# Altium footprint library Connector_JST.PcbLib: 558 footprints (part 16 of 35)
Each footprint in its own frame and in the unit in brackets; x right, y up, seen from the top. Pads: shape width x height; smd on the part's side, far side on the other; paste and mask are expansions set on the pad; w line width, h text height; cw(c..) or ccw(c..) is an arc to the next point about the centre after c.
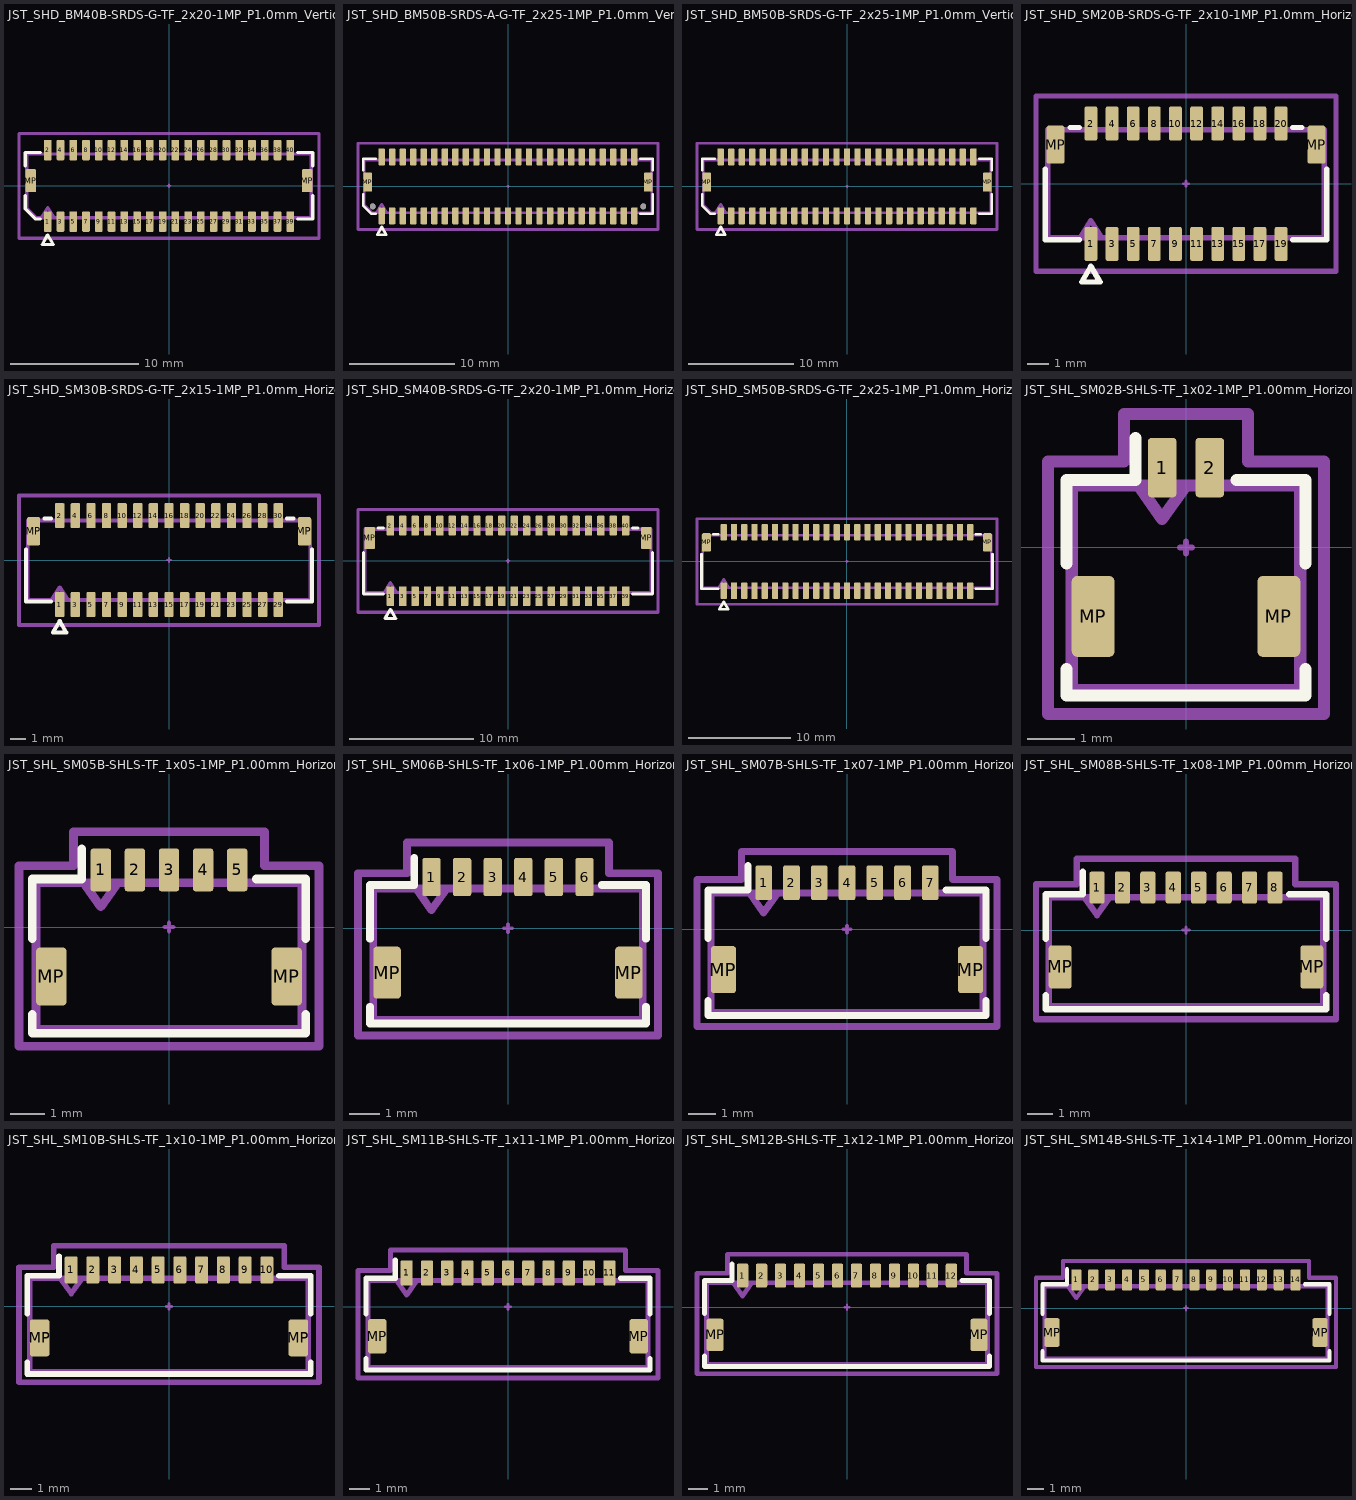
[diagram p15: the footprints below, top view; thin cyan lines are the x and y axes]

## JST_SHD_BM40B-SRDS-G-TF_2x20-1MP_P1.0mm_Vertical [mm] "JST_SHD_BM40B-SRDS-G-TF_2x20-1MP_P1.0mm_Vertical"
pads (42):
  rrect25% 0.6x1.6 smd: 1(-9.5,-2.8) 2(-9.5,2.8) 3(-8.5,-2.8) 4(-8.5,2.8) 5(-7.5,-2.8) 6(-7.5,2.8) 7(-6.5,-2.8) 8(-6.5,2.8) 9(-5.5,-2.8) 10(-5.5,2.8) 11(-4.5,-2.8) 12(-4.5,2.8) 13(-3.5,-2.8) 14(-3.5,2.8) 15(-2.5,-2.8) 16(-2.5,2.8) 17(-1.5,-2.8) 18(-1.5,2.8) 19(-0.5,-2.8) 20(-0.5,2.8) 21(0.5,-2.8) 22(0.5,2.8) 23(1.5,-2.8) 24(1.5,2.8) 25(2.5,-2.8) 26(2.5,2.8) 27(3.5,-2.8) 28(3.5,2.8) 29(4.5,-2.8) 30(4.5,2.8) 31(5.5,-2.8) 32(5.5,2.8) 33(6.5,-2.8) 34(6.5,2.8) 35(7.5,-2.8) 36(7.5,2.8) 37(8.5,-2.8) 38(8.5,2.8) 39(9.5,-2.8) 40(9.5,2.8)
  rrect25% 0.85x1.8 smd: MP(-10.825,0.4) MP(10.825,0.4)
F.SilkS:
  lines w0.254: -11.26,-0.76 -11.26,-1.796 -10.446,-2.61 -10.06,-2.61 ; -11.26,1.56 -11.26,2.61 -10.06,2.61 ; -9.506,-3.86 -9.933,-4.6 -9.067,-4.6 -9.494,-3.86 ; 10.06,-2.61 11.26,-2.61 11.26,-0.76 ; 10.06,2.61 11.26,2.61 11.26,1.56
Top Component Center:
  lines w0.127: -0.127,0 0.127,0 ; 0,-0.127 0,0.127
Top Assembly:
  lines w0.254: -10,-2.5 -9.5,-1.7 -9,-2.5 ; -11.15,-1.75 -10.4,-2.5 11.15,-2.5 11.15,2.5 -11.15,2.5 -11.15,-1.75
Top Courtyard:
  lines w0.254: -11.75,-4.1 11.75,-4.1 11.75,4.1 -11.75,4.1 -11.75,-4.1
Top Designator:
  text ".Designator" at -3.43,-0.344 h1.52

## JST_SHD_BM50B-SRDS-A-G-TF_2x25-1MP_P1.0mm_Vertical [mm] "JST_SHD_BM50B-SRDS-A-G-TF_2x25-1MP_P1.0mm_Vertical"
pads (54):
  rrect25% 0.6x1.6 smd: 1(-12,-2.8) 2(-12,2.8) 3(-11,-2.8) 4(-11,2.8) 5(-10,-2.8) 6(-10,2.8) 7(-9,-2.8) 8(-9,2.8) 9(-8,-2.8) 10(-8,2.8) 11(-7,-2.8) 12(-7,2.8) 13(-6,-2.8) 14(-6,2.8) 15(-5,-2.8) 16(-5,2.8) 17(-4,-2.8) 18(-4,2.8) 19(-3,-2.8) 20(-3,2.8) 21(-2,-2.8) 22(-2,2.8) 23(-1,-2.8) 24(-1,2.8) 25(0,-2.8) 26(0,2.8) 27(1,-2.8) 28(1,2.8) 29(2,-2.8) 30(2,2.8) 31(3,-2.8) 32(3,2.8) 33(4,-2.8) 34(4,2.8) 35(5,-2.8) 36(5,2.8) 37(6,-2.8) 38(6,2.8) 39(7,-2.8) 40(7,2.8) 41(8,-2.8) 42(8,2.8) 43(9,-2.8) 44(9,2.8) 45(10,-2.8) 46(10,2.8) 47(11,-2.8) 48(11,2.8) 49(12,-2.8) 50(12,2.8)
  rrect25% 0.85x1.8 smd: MP(-13.325,0.4) MP(13.325,0.4)
  round 0.55 hole 0.55: Un1(-12.85,-1.9) Un2(12.85,-1.9)
F.SilkS:
  lines w0.254: -13.76,-0.76 -13.76,-1.796 -12.946,-2.61 -12.56,-2.61 ; -13.76,1.56 -13.76,2.61 -12.56,2.61 ; -12.006,-3.86 -12.433,-4.6 -11.567,-4.6 -11.994,-3.86 ; 12.56,-2.61 13.76,-2.61 13.76,-0.76 ; 12.56,2.61 13.76,2.61 13.76,1.56
Top Component Center:
  lines w0.127: -0.127,0 0.127,0 ; 0,-0.127 0,0.127
Top Assembly:
  lines w0.254: -12.5,-2.5 -12,-1.7 -11.5,-2.5 ; -13.65,-1.75 -12.9,-2.5 13.65,-2.5 13.65,2.5 -13.65,2.5 -13.65,-1.75
Top Courtyard:
  lines w0.254: -14.25,-4.1 14.25,-4.1 14.25,4.1 -14.25,4.1 -14.25,-4.1
Top Designator:
  text ".Designator" at -3.43,-0.344 h1.52

## JST_SHD_BM50B-SRDS-G-TF_2x25-1MP_P1.0mm_Vertical [mm] "JST_SHD_BM50B-SRDS-G-TF_2x25-1MP_P1.0mm_Vertical"
pads (52):
  rrect25% 0.6x1.6 smd: 1(-12,-2.8) 2(-12,2.8) 3(-11,-2.8) 4(-11,2.8) 5(-10,-2.8) 6(-10,2.8) 7(-9,-2.8) 8(-9,2.8) 9(-8,-2.8) 10(-8,2.8) 11(-7,-2.8) 12(-7,2.8) 13(-6,-2.8) 14(-6,2.8) 15(-5,-2.8) 16(-5,2.8) 17(-4,-2.8) 18(-4,2.8) 19(-3,-2.8) 20(-3,2.8) 21(-2,-2.8) 22(-2,2.8) 23(-1,-2.8) 24(-1,2.8) 25(0,-2.8) 26(0,2.8) 27(1,-2.8) 28(1,2.8) 29(2,-2.8) 30(2,2.8) 31(3,-2.8) 32(3,2.8) 33(4,-2.8) 34(4,2.8) 35(5,-2.8) 36(5,2.8) 37(6,-2.8) 38(6,2.8) 39(7,-2.8) 40(7,2.8) 41(8,-2.8) 42(8,2.8) 43(9,-2.8) 44(9,2.8) 45(10,-2.8) 46(10,2.8) 47(11,-2.8) 48(11,2.8) 49(12,-2.8) 50(12,2.8)
  rrect25% 0.85x1.8 smd: MP(-13.325,0.4) MP(13.325,0.4)
F.SilkS:
  lines w0.254: -13.76,-0.76 -13.76,-1.796 -12.946,-2.61 -12.56,-2.61 ; -13.76,1.56 -13.76,2.61 -12.56,2.61 ; -12.006,-3.86 -12.433,-4.6 -11.567,-4.6 -11.994,-3.86 ; 12.56,-2.61 13.76,-2.61 13.76,-0.76 ; 12.56,2.61 13.76,2.61 13.76,1.56
Top Component Center:
  lines w0.127: -0.127,0 0.127,0 ; 0,-0.127 0,0.127
Top Assembly:
  lines w0.254: -12.5,-2.5 -12,-1.7 -11.5,-2.5 ; -13.65,-1.75 -12.9,-2.5 13.65,-2.5 13.65,2.5 -13.65,2.5 -13.65,-1.75
Top Courtyard:
  lines w0.254: -14.25,-4.1 14.25,-4.1 14.25,4.1 -14.25,4.1 -14.25,-4.1
Top Designator:
  text ".Designator" at -3.43,-0.344 h1.52

## JST_SHD_SM20B-SRDS-G-TF_2x10-1MP_P1.0mm_Horizontal [mm] "JST_SHD_SM20B-SRDS-G-TF_2x10-1MP_P1.0mm_Horizontal"
pads (22):
  rrect25% 0.6x1.6 smd: 1(-4.5,-2.85) 2(-4.5,2.85) 3(-3.5,-2.85) 4(-3.5,2.85) 5(-2.5,-2.85) 6(-2.5,2.85) 7(-1.5,-2.85) 8(-1.5,2.85) 9(-0.5,-2.85) 10(-0.5,2.85) 11(0.5,-2.85) 12(0.5,2.85) 13(1.5,-2.85) 14(1.5,2.85) 15(2.5,-2.85) 16(2.5,2.85) 17(3.5,-2.85) 18(3.5,2.85) 19(4.5,-2.85) 20(4.5,2.85)
  rrect25% 0.85x1.8 smd: MP(-6.175,1.85) MP(6.175,1.85)
F.SilkS:
  lines w0.254: -6.66,0.69 -6.66,-2.66 -5.06,-2.66 ; -5.49,2.66 -5.06,2.66 ; -4.506,-3.91 -4.933,-4.65 -4.067,-4.65 -4.494,-3.91 ; 5.06,-2.66 6.66,-2.66 6.66,0.69 ; 5.06,2.66 5.49,2.66
Top Component Center:
  lines w0.127: -0.127,0 0.127,0 ; 0,-0.127 0,0.127
Top Assembly:
  lines w0.254: -5,-2.55 -4.5,-1.75 -4,-2.55 ; -6.55,-2.55 -6.55,2.55 6.55,2.55 6.55,-2.55 -6.55,-2.55
Top Courtyard:
  lines w0.254: -7.1,-4.15 -7.1,4.15 7.1,4.15 7.1,-4.15 -7.1,-4.15
Top Designator:
  text ".Designator" at -3.43,-0.344 h1.52

## JST_SHD_SM30B-SRDS-G-TF_2x15-1MP_P1.0mm_Horizontal [mm] "JST_SHD_SM30B-SRDS-G-TF_2x15-1MP_P1.0mm_Horizontal"
pads (32):
  rrect25% 0.6x1.6 smd: 1(-7,-2.85) 2(-7,2.85) 3(-6,-2.85) 4(-6,2.85) 5(-5,-2.85) 6(-5,2.85) 7(-4,-2.85) 8(-4,2.85) 9(-3,-2.85) 10(-3,2.85) 11(-2,-2.85) 12(-2,2.85) 13(-1,-2.85) 14(-1,2.85) 15(0,-2.85) 16(0,2.85) 17(1,-2.85) 18(1,2.85) 19(2,-2.85) 20(2,2.85) 21(3,-2.85) 22(3,2.85) 23(4,-2.85) 24(4,2.85) 25(5,-2.85) 26(5,2.85) 27(6,-2.85) 28(6,2.85) 29(7,-2.85) 30(7,2.85)
  rrect25% 0.85x1.8 smd: MP(-8.675,1.85) MP(8.675,1.85)
F.SilkS:
  lines w0.254: -9.16,0.69 -9.16,-2.66 -7.56,-2.66 ; -7.99,2.66 -7.56,2.66 ; -7.006,-3.91 -7.433,-4.65 -6.567,-4.65 -6.994,-3.91 ; 7.56,-2.66 9.16,-2.66 9.16,0.69 ; 7.56,2.66 7.99,2.66
Top Component Center:
  lines w0.127: -0.127,0 0.127,0 ; 0,-0.127 0,0.127
Top Assembly:
  lines w0.254: -7.5,-2.55 -7,-1.75 -6.5,-2.55 ; -9.05,-2.55 -9.05,2.55 9.05,2.55 9.05,-2.55 -9.05,-2.55
Top Courtyard:
  lines w0.254: -9.61,-4.15 -9.61,4.15 9.61,4.15 9.61,-4.15 -9.61,-4.15
Top Designator:
  text ".Designator" at -3.43,-0.344 h1.52

## JST_SHD_SM40B-SRDS-G-TF_2x20-1MP_P1.0mm_Horizontal [mm] "JST_SHD_SM40B-SRDS-G-TF_2x20-1MP_P1.0mm_Horizontal"
pads (42):
  rrect25% 0.6x1.6 smd: 1(-9.5,-2.85) 2(-9.5,2.85) 3(-8.5,-2.85) 4(-8.5,2.85) 5(-7.5,-2.85) 6(-7.5,2.85) 7(-6.5,-2.85) 8(-6.5,2.85) 9(-5.5,-2.85) 10(-5.5,2.85) 11(-4.5,-2.85) 12(-4.5,2.85) 13(-3.5,-2.85) 14(-3.5,2.85) 15(-2.5,-2.85) 16(-2.5,2.85) 17(-1.5,-2.85) 18(-1.5,2.85) 19(-0.5,-2.85) 20(-0.5,2.85) 21(0.5,-2.85) 22(0.5,2.85) 23(1.5,-2.85) 24(1.5,2.85) 25(2.5,-2.85) 26(2.5,2.85) 27(3.5,-2.85) 28(3.5,2.85) 29(4.5,-2.85) 30(4.5,2.85) 31(5.5,-2.85) 32(5.5,2.85) 33(6.5,-2.85) 34(6.5,2.85) 35(7.5,-2.85) 36(7.5,2.85) 37(8.5,-2.85) 38(8.5,2.85) 39(9.5,-2.85) 40(9.5,2.85)
  rrect25% 0.85x1.8 smd: MP(-11.175,1.85) MP(11.175,1.85)
F.SilkS:
  lines w0.254: -11.66,0.69 -11.66,-2.66 -10.06,-2.66 ; -10.49,2.66 -10.06,2.66 ; -9.506,-3.91 -9.933,-4.65 -9.067,-4.65 -9.494,-3.91 ; 10.06,-2.66 11.66,-2.66 11.66,0.69 ; 10.06,2.66 10.49,2.66
Top Component Center:
  lines w0.127: -0.127,0 0.127,0 ; 0,-0.127 0,0.127
Top Assembly:
  lines w0.254: -10,-2.55 -9.5,-1.75 -9,-2.55 ; -11.55,-2.55 11.55,-2.55 11.55,2.55 -11.55,2.55 -11.55,-2.55
Top Courtyard:
  lines w0.254: -12.11,-4.15 12.11,-4.15 12.11,4.15 -12.11,4.15 -12.11,-4.15
Top Designator:
  text ".Designator" at -3.43,-0.344 h1.52

## JST_SHD_SM50B-SRDS-G-TF_2x25-1MP_P1.0mm_Horizontal [mm] "JST_SHD_SM50B-SRDS-G-TF_2x25-1MP_P1.0mm_Horizontal"
pads (52):
  rrect25% 0.6x1.6 smd: 1(-12,-2.85) 2(-12,2.85) 3(-11,-2.85) 4(-11,2.85) 5(-10,-2.85) 6(-10,2.85) 7(-9,-2.85) 8(-9,2.85) 9(-8,-2.85) 10(-8,2.85) 11(-7,-2.85) 12(-7,2.85) 13(-6,-2.85) 14(-6,2.85) 15(-5,-2.85) 16(-5,2.85) 17(-4,-2.85) 18(-4,2.85) 19(-3,-2.85) 20(-3,2.85) 21(-2,-2.85) 22(-2,2.85) 23(-1,-2.85) 24(-1,2.85) 25(0,-2.85) 26(0,2.85) 27(1,-2.85) 28(1,2.85) 29(2,-2.85) 30(2,2.85) 31(3,-2.85) 32(3,2.85) 33(4,-2.85) 34(4,2.85) 35(5,-2.85) 36(5,2.85) 37(6,-2.85) 38(6,2.85) 39(7,-2.85) 40(7,2.85) 41(8,-2.85) 42(8,2.85) 43(9,-2.85) 44(9,2.85) 45(10,-2.85) 46(10,2.85) 47(11,-2.85) 48(11,2.85) 49(12,-2.85) 50(12,2.85)
  rrect25% 0.85x1.8 smd: MP(-13.675,1.85) MP(13.675,1.85)
F.SilkS:
  lines w0.254: -14.16,0.69 -14.16,-2.66 -12.56,-2.66 ; -12.99,2.66 -12.56,2.66 ; -12.006,-3.91 -12.433,-4.65 -11.567,-4.65 -11.994,-3.91 ; 12.56,-2.66 14.16,-2.66 14.16,0.69 ; 12.56,2.66 12.99,2.66
Top Component Center:
  lines w0.127: -0.127,0 0.127,0 ; 0,-0.127 0,0.127
Top Assembly:
  lines w0.254: -12.5,-2.55 -12,-1.75 -11.5,-2.55 ; -14.05,-2.55 14.05,-2.55 14.05,2.55 -14.05,2.55 -14.05,-2.55
Top Courtyard:
  lines w0.254: -14.6,-4.15 14.6,-4.15 14.6,4.15 -14.6,4.15 -14.6,-4.15
Top Designator:
  text ".Designator" at -3.43,-0.344 h1.52

## JST_SHL_SM02B-SHLS-TF_1x02-1MP_P1.00mm_Horizontal [mm] "JST_SHL_SM02B-SHLS-TF_1x02-1MP_P1.00mm_Horizontal"
pads (4):
  rrect25% 0.6x1.25 smd: 1(-0.5,1.675) 2(0.5,1.675)
  rrect25% 0.9x1.7 smd: MP(-1.95,-1.45) MP(1.95,-1.45)
F.SilkS:
  lines w0.254: -2.51,-2.56 -2.51,-3.11 2.51,-3.11 2.51,-2.56 ; -2.51,-0.34 -2.51,1.41 -1.06,1.41 -1.06,2.3 ; 1.06,1.41 2.51,1.41 2.51,-0.34
Top Component Center:
  lines w0.127: -0.127,0 0.127,0 ; 0,-0.127 0,0.127
Top Assembly:
  lines w0.254: -1,1.3 -0.5,0.593 0,1.3 ; -2.4,-3 -2.4,1.3 2.4,1.3 2.4,-3 -2.4,-3
Top Courtyard:
  lines w0.254: -2.9,-3.5 -2.9,1.8 -1.3,1.8 -1.3,2.8 1.3,2.8 1.3,1.8 2.9,1.8 2.9,-3.5 -2.9,-3.5
Top Designator:
  text ".Designator" at -3.43,-0.344 h1.52

## JST_SHL_SM05B-SHLS-TF_1x05-1MP_P1.00mm_Horizontal [mm] "JST_SHL_SM05B-SHLS-TF_1x05-1MP_P1.00mm_Horizontal"
pads (7):
  rrect25% 0.6x1.25 smd: 1(-2,1.675) 2(-1,1.675) 3(0,1.675) 4(1,1.675) 5(2,1.675)
  rrect25% 0.9x1.7 smd: MP(-3.45,-1.45) MP(3.45,-1.45)
F.SilkS:
  lines w0.254: -4.01,-2.56 -4.01,-3.11 4.01,-3.11 4.01,-2.56 ; -4.01,-0.34 -4.01,1.41 -2.56,1.41 -2.56,2.3 ; 2.56,1.41 4.01,1.41 4.01,-0.34
Top Component Center:
  lines w0.127: -0.127,0 0.127,0 ; 0,-0.127 0,0.127
Top Assembly:
  lines w0.254: -2.5,1.3 -2,0.593 -1.5,1.3 ; -3.9,-3 3.9,-3 3.9,1.3 -3.9,1.3 -3.9,-3
Top Courtyard:
  lines w0.254: -4.4,-3.5 4.4,-3.5 4.4,1.8 2.8,1.8 2.8,2.8 -2.8,2.8 -2.8,1.8 -4.4,1.8 -4.4,-3.5
Top Designator:
  text ".Designator" at -3.43,-0.344 h1.52

## JST_SHL_SM06B-SHLS-TF_1x06-1MP_P1.00mm_Horizontal [mm] "JST_SHL_SM06B-SHLS-TF_1x06-1MP_P1.00mm_Horizontal"
pads (8):
  rrect25% 0.6x1.25 smd: 1(-2.5,1.675) 2(-1.5,1.675) 3(-0.5,1.675) 4(0.5,1.675) 5(1.5,1.675) 6(2.5,1.675)
  rrect25% 0.9x1.7 smd: MP(-3.95,-1.45) MP(3.95,-1.45)
F.SilkS:
  lines w0.254: -4.51,-2.56 -4.51,-3.11 4.51,-3.11 4.51,-2.56 ; -4.51,-0.34 -4.51,1.41 -3.06,1.41 -3.06,2.3 ; 3.06,1.41 4.51,1.41 4.51,-0.34
Top Component Center:
  lines w0.127: -0.127,0 0.127,0 ; 0,-0.127 0,0.127
Top Assembly:
  lines w0.254: -3,1.3 -2.5,0.593 -2,1.3 ; -4.4,-3 4.4,-3 4.4,1.3 -4.4,1.3 -4.4,-3
Top Courtyard:
  lines w0.254: -4.9,-3.5 4.9,-3.5 4.9,1.8 3.3,1.8 3.3,2.8 -3.3,2.8 -3.3,1.8 -4.9,1.8 -4.9,-3.5
Top Designator:
  text ".Designator" at -3.43,-0.344 h1.52

## JST_SHL_SM07B-SHLS-TF_1x07-1MP_P1.00mm_Horizontal [mm] "JST_SHL_SM07B-SHLS-TF_1x07-1MP_P1.00mm_Horizontal"
pads (9):
  rrect25% 0.6x1.25 smd: 1(-3,1.675) 2(-2,1.675) 3(-1,1.675) 4(0,1.675) 5(1,1.675) 6(2,1.675) 7(3,1.675)
  rrect25% 0.9x1.7 smd: MP(-4.45,-1.45) MP(4.45,-1.45)
F.SilkS:
  lines w0.254: -5.01,-2.56 -5.01,-3.11 5.01,-3.11 5.01,-2.56 ; -5.01,-0.34 -5.01,1.41 -3.56,1.41 -3.56,2.3 ; 3.56,1.41 5.01,1.41 5.01,-0.34
Top Component Center:
  lines w0.127: -0.127,0 0.127,0 ; 0,-0.127 0,0.127
Top Assembly:
  lines w0.254: -3.5,1.3 -3,0.593 -2.5,1.3 ; -4.9,-3 4.9,-3 4.9,1.3 -4.9,1.3 -4.9,-3
Top Courtyard:
  lines w0.254: -5.4,-3.5 5.4,-3.5 5.4,1.8 3.8,1.8 3.8,2.8 -3.8,2.8 -3.8,1.8 -5.4,1.8 -5.4,-3.5
Top Designator:
  text ".Designator" at -3.43,-0.344 h1.52

## JST_SHL_SM08B-SHLS-TF_1x08-1MP_P1.00mm_Horizontal [mm] "JST_SHL_SM08B-SHLS-TF_1x08-1MP_P1.00mm_Horizontal"
pads (10):
  rrect25% 0.6x1.25 smd: 1(-3.5,1.675) 2(-2.5,1.675) 3(-1.5,1.675) 4(-0.5,1.675) 5(0.5,1.675) 6(1.5,1.675) 7(2.5,1.675) 8(3.5,1.675)
  rrect25% 0.9x1.7 smd: MP(-4.95,-1.45) MP(4.95,-1.45)
F.SilkS:
  lines w0.254: -5.51,-2.56 -5.51,-3.11 5.51,-3.11 5.51,-2.56 ; -5.51,-0.34 -5.51,1.41 -4.06,1.41 -4.06,2.3 ; 4.06,1.41 5.51,1.41 5.51,-0.34
Top Component Center:
  lines w0.127: -0.127,0 0.127,0 ; 0,-0.127 0,0.127
Top Assembly:
  lines w0.254: -4,1.3 -3.5,0.593 -3,1.3 ; -5.4,-3 -5.4,1.3 5.4,1.3 5.4,-3 -5.4,-3
Top Courtyard:
  lines w0.254: -5.9,-3.5 -5.9,1.8 -4.3,1.8 -4.3,2.8 4.3,2.8 4.3,1.8 5.9,1.8 5.9,-3.5 -5.9,-3.5
Top Designator:
  text ".Designator" at -3.43,-0.344 h1.52

## JST_SHL_SM10B-SHLS-TF_1x10-1MP_P1.00mm_Horizontal [mm] "JST_SHL_SM10B-SHLS-TF_1x10-1MP_P1.00mm_Horizontal"
pads (12):
  rrect25% 0.6x1.25 smd: 1(-4.5,1.675) 2(-3.5,1.675) 3(-2.5,1.675) 4(-1.5,1.675) 5(-0.5,1.675) 6(0.5,1.675) 7(1.5,1.675) 8(2.5,1.675) 9(3.5,1.675) 10(4.5,1.675)
  rrect25% 0.9x1.7 smd: MP(-5.95,-1.45) MP(5.95,-1.45)
F.SilkS:
  lines w0.254: -6.51,-2.56 -6.51,-3.11 6.51,-3.11 6.51,-2.56 ; -6.51,-0.34 -6.51,1.41 -5.06,1.41 -5.06,2.3 ; 5.06,1.41 6.51,1.41 6.51,-0.34
Top Component Center:
  lines w0.127: -0.127,0 0.127,0 ; 0,-0.127 0,0.127
Top Assembly:
  lines w0.254: -5,1.3 -4.5,0.593 -4,1.3 ; -6.4,-3 6.4,-3 6.4,1.3 -6.4,1.3 -6.4,-3
Top Courtyard:
  lines w0.254: -6.9,-3.5 6.9,-3.5 6.9,1.8 5.3,1.8 5.3,2.8 -5.3,2.8 -5.3,1.8 -6.9,1.8 -6.9,-3.5
Top Designator:
  text ".Designator" at -3.43,-0.344 h1.52

## JST_SHL_SM11B-SHLS-TF_1x11-1MP_P1.00mm_Horizontal [mm] "JST_SHL_SM11B-SHLS-TF_1x11-1MP_P1.00mm_Horizontal"
pads (13):
  rrect25% 0.6x1.25 smd: 1(-5,1.675) 2(-4,1.675) 3(-3,1.675) 4(-2,1.675) 5(-1,1.675) 6(0,1.675) 7(1,1.675) 8(2,1.675) 9(3,1.675) 10(4,1.675) 11(5,1.675)
  rrect25% 0.9x1.7 smd: MP(-6.45,-1.45) MP(6.45,-1.45)
F.SilkS:
  lines w0.254: -7.01,-2.56 -7.01,-3.11 7.01,-3.11 7.01,-2.56 ; -7.01,-0.34 -7.01,1.41 -5.56,1.41 -5.56,2.3 ; 5.56,1.41 7.01,1.41 7.01,-0.34
Top Component Center:
  lines w0.127: -0.127,0 0.127,0 ; 0,-0.127 0,0.127
Top Assembly:
  lines w0.254: -5.5,1.3 -5,0.593 -4.5,1.3 ; -6.9,-3 -6.9,1.3 6.9,1.3 6.9,-3 -6.9,-3
Top Courtyard:
  lines w0.254: -7.4,-3.5 -7.4,1.8 -5.8,1.8 -5.8,2.8 5.8,2.8 5.8,1.8 7.4,1.8 7.4,-3.5 -7.4,-3.5
Top Designator:
  text ".Designator" at -3.43,-0.344 h1.52

## JST_SHL_SM12B-SHLS-TF_1x12-1MP_P1.00mm_Horizontal [mm] "JST_SHL_SM12B-SHLS-TF_1x12-1MP_P1.00mm_Horizontal"
pads (14):
  rrect25% 0.6x1.25 smd: 1(-5.5,1.675) 2(-4.5,1.675) 3(-3.5,1.675) 4(-2.5,1.675) 5(-1.5,1.675) 6(-0.5,1.675) 7(0.5,1.675) 8(1.5,1.675) 9(2.5,1.675) 10(3.5,1.675) 11(4.5,1.675) 12(5.5,1.675)
  rrect25% 0.9x1.7 smd: MP(-6.95,-1.45) MP(6.95,-1.45)
F.SilkS:
  lines w0.254: -7.51,-2.56 -7.51,-3.11 7.51,-3.11 7.51,-2.56 ; -7.51,-0.34 -7.51,1.41 -6.06,1.41 -6.06,2.3 ; 6.06,1.41 7.51,1.41 7.51,-0.34
Top Component Center:
  lines w0.127: -0.127,0 0.127,0 ; 0,-0.127 0,0.127
Top Assembly:
  lines w0.254: -6,1.3 -5.5,0.593 -5,1.3 ; -7.4,-3 -7.4,1.3 7.4,1.3 7.4,-3 -7.4,-3
Top Courtyard:
  lines w0.254: -7.9,-3.5 -7.9,1.8 -6.3,1.8 -6.3,2.8 6.3,2.8 6.3,1.8 7.9,1.8 7.9,-3.5 -7.9,-3.5
Top Designator:
  text ".Designator" at -3.43,-0.344 h1.52

## JST_SHL_SM14B-SHLS-TF_1x14-1MP_P1.00mm_Horizontal [mm] "JST_SHL_SM14B-SHLS-TF_1x14-1MP_P1.00mm_Horizontal"
pads (16):
  rrect25% 0.6x1.25 smd: 1(-6.5,1.675) 2(-5.5,1.675) 3(-4.5,1.675) 4(-3.5,1.675) 5(-2.5,1.675) 6(-1.5,1.675) 7(-0.5,1.675) 8(0.5,1.675) 9(1.5,1.675) 10(2.5,1.675) 11(3.5,1.675) 12(4.5,1.675) 13(5.5,1.675) 14(6.5,1.675)
  rrect25% 0.9x1.7 smd: MP(-7.95,-1.45) MP(7.95,-1.45)
F.SilkS:
  lines w0.254: -8.51,-2.56 -8.51,-3.11 8.51,-3.11 8.51,-2.56 ; -8.51,-0.34 -8.51,1.41 -7.06,1.41 -7.06,2.3 ; 7.06,1.41 8.51,1.41 8.51,-0.34
Top Component Center:
  lines w0.127: -0.127,0 0.127,0 ; 0,-0.127 0,0.127
Top Assembly:
  lines w0.254: -7,1.3 -6.5,0.593 -6,1.3 ; -8.4,-3 -8.4,1.3 8.4,1.3 8.4,-3 -8.4,-3
Top Courtyard:
  lines w0.254: -8.9,-3.5 -8.9,1.8 -7.3,1.8 -7.3,2.8 7.3,2.8 7.3,1.8 8.9,1.8 8.9,-3.5 -8.9,-3.5
Top Designator:
  text ".Designator" at -3.43,-0.344 h1.52